# EAGLE library part ISO1050 (library toyotune)
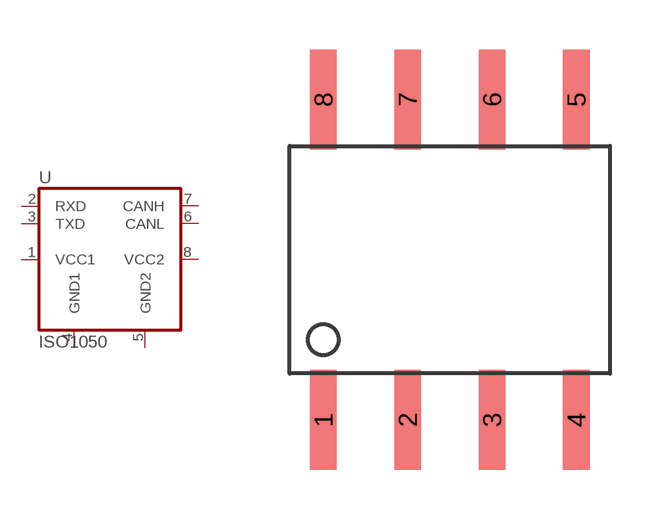
[diagram p52: symbol with the pads of DUB_R-PDSO-G8; footprint DUB_R-PDSO-G8]

Designator prefix -

## ISO1050  [DUB_R-PDSO-G8]
1  VCC1  pwr
2  RXD
3  TXD
4  GND1  pwr
5  GND2  pwr
6  CANL
7  CANH
8  VCC2  pwr

## Footprint DUB_R-PDSO-G8 (pad centres in mm)
smd 0.8 x 3: 1 -3.81,-4.826; 2 -1.27,-4.826; 3 1.27,-4.826; 4 3.81,-4.826; 5 3.81,4.826; 6 1.27,4.826; 7 -1.27,4.826; 8 -3.81,4.826